# Altium integrated library Silicon Labs Clocks and Oscillators.IntLib: 678 symbols (part 42 of 45)
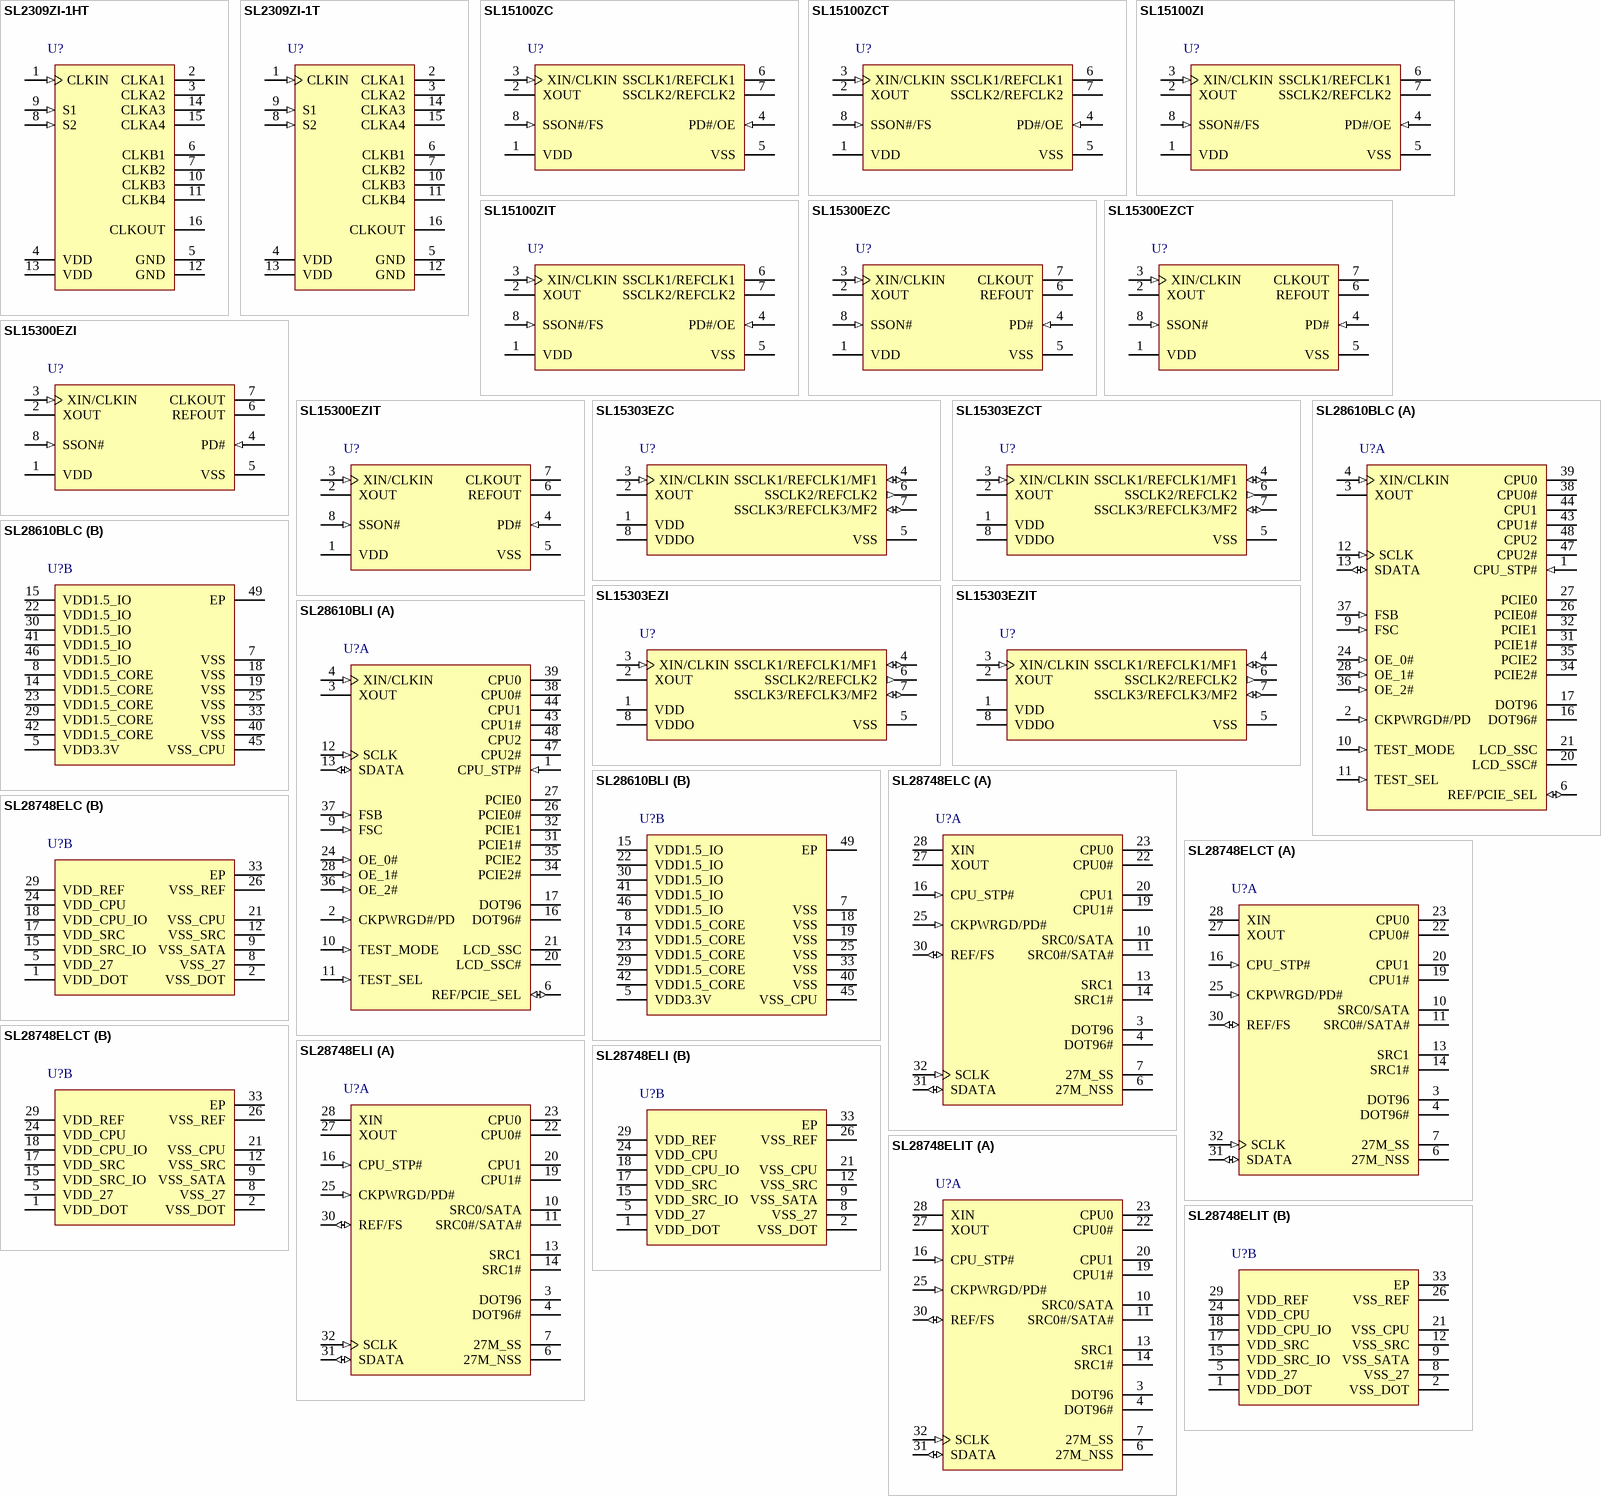
[diagram p85: symbols SL2309ZI-1HT to SL28748ELIT]

## SL15100ZI
designator U?
Programmable Spread Spectrum Clock Generator (SSCG), 2.5 / 3.3 V, 3 to 200 MHz Output, -40 to 85 degC, 8-pin SOP, Tube; Manufacturer: Silicon Labs; PartNumber: SL15100ZI; Output Format: LVCMOS; Output Frequency (MHz): 3 to 200; Phase Jitter (RMS): > 1 ps; Reference Inputs: 1; VDD: 2.5 V; 3.3 V; Sub-Family: Clock Generators; DatasheetVersion: Rev. 1.8; PackageReference: TSSOP-8; PackageDescription: 8-Pin Thin Shrink Small-Outline Package, Body 4.4 x 3 mm, Pitch 0.65 mm; Supplier 1: Digi-Key; Supplier Part Number 1: SL15100ZI-ND; Supplier 2: Mouser; Supplier Part Number 2: 634-SL15100ZI; Packing: Tube; Mounting Technology: Surface Mount; ComponentLink1Description: Manufacturer URL; ComponentLink1URL: http://www.silabs.com/; ComponentLink2Description: Datasheet; ComponentLink2URL: http://www.silabs.com/Support%20Documents/TechnicalDocs/SL15100.pdf; ComponentLink3Description: Package Specification; ComponentLink3URL: http://www.silabs.com/Support%20Documents/TechnicalDocs/SL2304NZ.pdf
footprint SLAB-TSSOP-8_N (SOP, 8-Leads, Body 4.5x3.1mm, Pitch 0.65mm, IPC Medium Density)
footprint SLAB-TSSOP-8_L (SOP, 8-Leads, Body 4.5x3.1mm, Pitch 0.65mm, IPC High Density)
footprint SLAB-TSSOP-8_M (SOP, 8-Leads, Body 4.5x3.1mm, Pitch 0.65mm, IPC Low Density)
pins: 1 VDD (power) "Positive power supply.", 2 XOUT "Crystal or ceramic resonator output pin. Leave this pin unconnected (floating) if external clock is used at Pin-3.", 3 XIN/CLKIN (in) "Crystal, ceramic resonator or external clock input pin.", 4 PD#/OE (in) "User Programmable PD# or OE control pin. Power Down (PD#-Active Low): If PD#=0(Low), the device is powered down and both SSCLK and REFOUT outputs are weakly pulled low to VSS. Output Enable (OE-Active High): If OE=1(High), (See Datasheet)", 5 VSS (power) "Power supply ground.", 6 SSCLK1/REFCLK1 (hiz) "This pin can be programmed as SSCLK1 or REFCLK1.", 7 SSCLK2/REFCLK2 (hiz) "This pin can be programmed as SSCLK2 or REFCLK2.", 8 SSON#/FS (in) "Programmable SSON# or Frequency Select (FS) Control pin. If SSCG# function is programmed: Spread-on=0(Low) or Spread-off=1(High). If FS function is programmed: The clock frequencies can be switched between two sets of (See Datasheet)"

## SL15100ZIT
designator U?
Programmable Spread Spectrum Clock Generator (SSCG), 2.5 / 3.3 V, 3 to 200 MHz Output, -40 to 85 degC, 8-pin SOP, Tape and Reel; Manufacturer: Silicon Labs; PartNumber: SL15100ZIT; Output Format: LVCMOS; Output Frequency (MHz): 3 to 200; Phase Jitter (RMS): > 1 ps; Reference Inputs: 1; VDD: 2.5 V; 3.3 V; Sub-Family: Clock Generators; DatasheetVersion: Rev. 1.8; PackageReference: TSSOP-8; PackageDescription: 8-Pin Thin Shrink Small-Outline Package, Body 4.4 x 3 mm, Pitch 0.65 mm; Supplier 1: Digi-Key; Supplier Part Number 1: SL15100ZIT-ND; Supplier 2: Mouser; Supplier Part Number 2: 634-SL15100ZIT; Packing: Tape and Reel; Mounting Technology: Surface Mount; ComponentLink1Description: Manufacturer URL; ComponentLink1URL: http://www.silabs.com/; ComponentLink2Description: Datasheet; ComponentLink2URL: http://www.silabs.com/Support%20Documents/TechnicalDocs/SL15100.pdf; ComponentLink3Description: Package Specification; ComponentLink3URL: http://www.silabs.com/Support%20Documents/TechnicalDocs/SL2304NZ.pdf
footprint SLAB-TSSOP-8_N (SOP, 8-Leads, Body 4.5x3.1mm, Pitch 0.65mm, IPC Medium Density)
footprint SLAB-TSSOP-8_L (SOP, 8-Leads, Body 4.5x3.1mm, Pitch 0.65mm, IPC High Density)
footprint SLAB-TSSOP-8_M (SOP, 8-Leads, Body 4.5x3.1mm, Pitch 0.65mm, IPC Low Density)
pins: 1 VDD (power) "Positive power supply.", 2 XOUT "Crystal or ceramic resonator output pin. Leave this pin unconnected (floating) if external clock is used at Pin-3.", 3 XIN/CLKIN (in) "Crystal, ceramic resonator or external clock input pin.", 4 PD#/OE (in) "User Programmable PD# or OE control pin. Power Down (PD#-Active Low): If PD#=0(Low), the device is powered down and both SSCLK and REFOUT outputs are weakly pulled low to VSS. Output Enable (OE-Active High): If OE=1(High), (See Datasheet)", 5 VSS (power) "Power supply ground.", 6 SSCLK1/REFCLK1 (hiz) "This pin can be programmed as SSCLK1 or REFCLK1.", 7 SSCLK2/REFCLK2 (hiz) "This pin can be programmed as SSCLK2 or REFCLK2.", 8 SSON#/FS (in) "Programmable SSON# or Frequency Select (FS) Control pin. If SSCG# function is programmed: Spread-on=0(Low) or Spread-off=1(High). If FS function is programmed: The clock frequencies can be switched between two sets of (See Datasheet)"

## SL15300EZC
designator U?
Programmable Spread Spectrum Clock Generator (SSCG), 1.8 / 2.5 / 3.3 V, 3 to 200 MHz Output, 0 to 70 degC, 8-pin SOP, Tube; Manufacturer: Silicon Labs; PartNumber: SL15300EZC; Output Format: LVCMOS; Output Frequency (MHz): 3 to 200; Phase Jitter (RMS): > 1 ps; Reference Inputs: 1; VDD: 1.8 V; 2.5 V; 3.3 V; Sub-Family: Clock Generators; DatasheetVersion: Rev. 2.0; PackageReference: TSSOP-8; PackageDescription: 8-Pin Thin Shrink Small-Outline Package, Body 4.4 x 3 mm, Pitch 0.65 mm; Packing: Tube; Mounting Technology: Surface Mount; ComponentLink1Description: Manufacturer URL; ComponentLink1URL: http://www.silabs.com/; ComponentLink2Description: Datasheet; ComponentLink2URL: http://www.silabs.com/Support%20Documents/TechnicalDocs/SL15300.pdf; ComponentLink3Description: Package Specification; ComponentLink3URL: http://www.silabs.com/Support%20Documents/TechnicalDocs/SL2304NZ.pdf
footprint SLAB-TSSOP-8_N (SOP, 8-Leads, Body 4.5x3.1mm, Pitch 0.65mm, IPC Medium Density)
footprint SLAB-TSSOP-8_L (SOP, 8-Leads, Body 4.5x3.1mm, Pitch 0.65mm, IPC High Density)
footprint SLAB-TSSOP-8_M (SOP, 8-Leads, Body 4.5x3.1mm, Pitch 0.65mm, IPC Low Density)
pins: 1 VDD (power) "Positive power supply.", 2 XOUT "Crystal or ceramic resonator output pin. Leave this pin unconnected (floating) if external clock is used at Pin-3.", 3 XIN/CLKIN (in) "Crystal, ceramic resonator or external clock input pin.", 4 PD# (in) "Power Down (PD#-Active Low): If PD#=0(Low) and Output Enable (OE-Active High). This pin is weakly pulled high to VDD (200Kohm-typ).", 5 VSS (power) "Power supply ground.", 6 REFOUT (hiz) "Reference clock output. Frequency at this pin is same as input crystal or clock.", 7 CLKOUT (hiz) "This pin can be programmed as SSCLK2 or REFCLK2.", 8 SSON# (in) "Spread Spectrum Clock Control pin. SSON#. If SSON#=0 spread is ON. If SSON#=1 spread is OFF. This pin is weakly pulled high to VDD (200Kohm-typ)."

## SL15300EZCT
designator U?
Programmable Spread Spectrum Clock Generator (SSCG), 1.8 / 2.5 / 3.3 V, 3 to 200 MHz Output, 0 to 70 degC, 8-pin SOP, Tape and Reel; Manufacturer: Silicon Labs; PartNumber: SL15300EZCT; Output Format: LVCMOS; Output Frequency (MHz): 3 to 200; Phase Jitter (RMS): > 1 ps; Reference Inputs: 1; VDD: 1.8 V; 2.5 V; 3.3 V; Sub-Family: Clock Generators; DatasheetVersion: Rev. 2.0; PackageReference: TSSOP-8; PackageDescription: 8-Pin Thin Shrink Small-Outline Package, Body 4.4 x 3 mm, Pitch 0.65 mm; Packing: Tape and Reel; Mounting Technology: Surface Mount; ComponentLink1Description: Manufacturer URL; ComponentLink1URL: http://www.silabs.com/; ComponentLink2Description: Datasheet; ComponentLink2URL: http://www.silabs.com/Support%20Documents/TechnicalDocs/SL15300.pdf; ComponentLink3Description: Package Specification; ComponentLink3URL: http://www.silabs.com/Support%20Documents/TechnicalDocs/SL2304NZ.pdf
footprint SLAB-TSSOP-8_N (SOP, 8-Leads, Body 4.5x3.1mm, Pitch 0.65mm, IPC Medium Density)
footprint SLAB-TSSOP-8_L (SOP, 8-Leads, Body 4.5x3.1mm, Pitch 0.65mm, IPC High Density)
footprint SLAB-TSSOP-8_M (SOP, 8-Leads, Body 4.5x3.1mm, Pitch 0.65mm, IPC Low Density)
pins: 1 VDD (power) "Positive power supply.", 2 XOUT "Crystal or ceramic resonator output pin. Leave this pin unconnected (floating) if external clock is used at Pin-3.", 3 XIN/CLKIN (in) "Crystal, ceramic resonator or external clock input pin.", 4 PD# (in) "Power Down (PD#-Active Low): If PD#=0(Low) and Output Enable (OE-Active High). This pin is weakly pulled high to VDD (200Kohm-typ).", 5 VSS (power) "Power supply ground.", 6 REFOUT (hiz) "Reference clock output. Frequency at this pin is same as input crystal or clock.", 7 CLKOUT (hiz) "This pin can be programmed as SSCLK2 or REFCLK2.", 8 SSON# (in) "Spread Spectrum Clock Control pin. SSON#. If SSON#=0 spread is ON. If SSON#=1 spread is OFF. This pin is weakly pulled high to VDD (200Kohm-typ)."

## SL15300EZI
designator U?
Programmable Spread Spectrum Clock Generator (SSCG), 1.8 / 2.5 / 3.3 V, 3 to 200 MHz Output, -40 to 85 degC, 8-pin SOP, Tube; Manufacturer: Silicon Labs; PartNumber: SL15300EZI; Output Format: LVCMOS; Output Frequency (MHz): 3 to 200; Phase Jitter (RMS): > 1 ps; Reference Inputs: 1; VDD: 1.8 V; 2.5 V; 3.3 V; Sub-Family: Clock Generators; DatasheetVersion: Rev. 2.0; PackageReference: TSSOP-8; PackageDescription: 8-Pin Thin Shrink Small-Outline Package, Body 4.4 x 3 mm, Pitch 0.65 mm; Packing: Tube; Mounting Technology: Surface Mount; ComponentLink1Description: Manufacturer URL; ComponentLink1URL: http://www.silabs.com/; ComponentLink2Description: Datasheet; ComponentLink2URL: http://www.silabs.com/Support%20Documents/TechnicalDocs/SL15300.pdf; ComponentLink3Description: Package Specification; ComponentLink3URL: http://www.silabs.com/Support%20Documents/TechnicalDocs/SL2304NZ.pdf
footprint SLAB-TSSOP-8_N (SOP, 8-Leads, Body 4.5x3.1mm, Pitch 0.65mm, IPC Medium Density)
footprint SLAB-TSSOP-8_L (SOP, 8-Leads, Body 4.5x3.1mm, Pitch 0.65mm, IPC High Density)
footprint SLAB-TSSOP-8_M (SOP, 8-Leads, Body 4.5x3.1mm, Pitch 0.65mm, IPC Low Density)
pins: 1 VDD (power) "Positive power supply.", 2 XOUT "Crystal or ceramic resonator output pin. Leave this pin unconnected (floating) if external clock is used at Pin-3.", 3 XIN/CLKIN (in) "Crystal, ceramic resonator or external clock input pin.", 4 PD# (in) "Power Down (PD#-Active Low): If PD#=0(Low) and Output Enable (OE-Active High). This pin is weakly pulled high to VDD (200Kohm-typ).", 5 VSS (power) "Power supply ground.", 6 REFOUT (hiz) "Reference clock output. Frequency at this pin is same as input crystal or clock.", 7 CLKOUT (hiz) "This pin can be programmed as SSCLK2 or REFCLK2.", 8 SSON# (in) "Spread Spectrum Clock Control pin. SSON#. If SSON#=0 spread is ON. If SSON#=1 spread is OFF. This pin is weakly pulled high to VDD (200Kohm-typ)."

## SL15300EZIT
designator U?
Programmable Spread Spectrum Clock Generator (SSCG), 1.8 / 2.5 / 3.3 V, 3 to 200 MHz Output, -40 to 85 degC, 8-pin SOP, Tape and Reel; Manufacturer: Silicon Labs; PartNumber: SL15300EZIT; Output Format: LVCMOS; Output Frequency (MHz): 3 to 200; Phase Jitter (RMS): > 1 ps; Reference Inputs: 1; VDD: 1.8 V; 2.5 V; 3.3 V; Sub-Family: Clock Generators; DatasheetVersion: Rev. 2.0; PackageReference: TSSOP-8; PackageDescription: 8-Pin Thin Shrink Small-Outline Package, Body 4.4 x 3 mm, Pitch 0.65 mm; Packing: Tape and Reel; Mounting Technology: Surface Mount; ComponentLink1Description: Manufacturer URL; ComponentLink1URL: http://www.silabs.com/; ComponentLink2Description: Datasheet; ComponentLink2URL: http://www.silabs.com/Support%20Documents/TechnicalDocs/SL15300.pdf; ComponentLink3Description: Package Specification; ComponentLink3URL: http://www.silabs.com/Support%20Documents/TechnicalDocs/SL2304NZ.pdf
footprint SLAB-TSSOP-8_N (SOP, 8-Leads, Body 4.5x3.1mm, Pitch 0.65mm, IPC Medium Density)
footprint SLAB-TSSOP-8_L (SOP, 8-Leads, Body 4.5x3.1mm, Pitch 0.65mm, IPC High Density)
footprint SLAB-TSSOP-8_M (SOP, 8-Leads, Body 4.5x3.1mm, Pitch 0.65mm, IPC Low Density)
pins: 1 VDD (power) "Positive power supply.", 2 XOUT "Crystal or ceramic resonator output pin. Leave this pin unconnected (floating) if external clock is used at Pin-3.", 3 XIN/CLKIN (in) "Crystal, ceramic resonator or external clock input pin.", 4 PD# (in) "Power Down (PD#-Active Low): If PD#=0(Low) and Output Enable (OE-Active High). This pin is weakly pulled high to VDD (200Kohm-typ).", 5 VSS (power) "Power supply ground.", 6 REFOUT (hiz) "Reference clock output. Frequency at this pin is same as input crystal or clock.", 7 CLKOUT (hiz) "This pin can be programmed as SSCLK2 or REFCLK2.", 8 SSON# (in) "Spread Spectrum Clock Control pin. SSON#. If SSON#=0 spread is ON. If SSON#=1 spread is OFF. This pin is weakly pulled high to VDD (200Kohm-typ)."

## SL15303EZC
designator U?
Programmable Spread Spectrum Clock Generator (SSCG), 1.8 / 2.5 / 3.3 V, 3 to 200 MHz Output, 0 to 70 degC, 8-pin SOP, Tube; Manufacturer: Silicon Labs; PartNumber: SL15303EZC; Output Format: LVCMOS; Output Frequency (MHz): 3 to 200; Phase Jitter (RMS): > 1 ps; Reference Inputs: 1; VDD: 1.8 V; 2.5 V; 3.3 V; Sub-Family: Clock Generators; DatasheetVersion: Rev. 2.0; PackageReference: TSSOP-8; PackageDescription: 8-Pin Thin Shrink Small-Outline Package, Body 4.4 x 3 mm, Pitch 0.65 mm; Supplier 1: Digi-Key; Supplier Part Number 1: SL15303EZC-ND; Supplier 2: Mouser; Supplier Part Number 2: 634-SL15303EZC; Packing: Tube; Mounting Technology: Surface Mount; ComponentLink1Description: Manufacturer URL; ComponentLink1URL: http://www.silabs.com/; ComponentLink2Description: Datasheet; ComponentLink2URL: http://www.silabs.com/Support%20Documents/TechnicalDocs/SL15303.pdf; ComponentLink3Description: Package Specification; ComponentLink3URL: http://www.silabs.com/Support%20Documents/TechnicalDocs/SL2305.pdf
footprint SLAB-TSSOP-8_A_N (SOP, 8-Leads, Body 4.5x3.1mm, Pitch 0.65mm, IPC Medium Density)
footprint SLAB-TSSOP-8_A_L (SOP, 8-Leads, Body 4.5x3.1mm, Pitch 0.65mm, IPC High Density)
footprint SLAB-TSSOP-8_A_M (SOP, 8-Leads, Body 4.5x3.1mm, Pitch 0.65mm, IPC Low Density)
pins: 1 VDD (power) "Positive power supply pin for Pins 4 and 6 I/O (clock driver, PD#, OE, SSON# or FS), core and input oscillator. This pin can be powered as 3.3 to 2.5V or 1.8V as long as VDDO=<VDD.", 2 XOUT "Crystal or ceramic resonator output pin. Leave this pin unconnected (floating) if external clock is used at Pin-3.", 3 XIN/CLKIN (in) "Crystal, ceramic resonator or external clock input pin.", 4 SSCLK1/REFCLK1/MF1 (io), 5 VSS (power) "Power supply ground for VDD and VSS.", 6 SSCLK2/REFCLK2 (out), 7 SSCLK3/REFCLK3/MF2 (io), 8 VDDO (power) "Power supply pin for Pin 7 clock driver. This pin can be powered as 3.3 to 2.5V or 1.8V as long as VDDO=<VDD."

## SL15303EZCT
designator U?
Programmable Spread Spectrum Clock Generator (SSCG), 1.8 / 2.5 / 3.3 V, 3 to 200 MHz Output, 0 to 70 degC, 8-pin SOP, Tape and Reel; Manufacturer: Silicon Labs; PartNumber: SL15303EZCT; Output Format: LVCMOS; Output Frequency (MHz): 3 to 200; Phase Jitter (RMS): > 1 ps; Reference Inputs: 1; VDD: 1.8 V; 2.5 V; 3.3 V; Sub-Family: Clock Generators; DatasheetVersion: Rev. 2.0; PackageReference: TSSOP-8; PackageDescription: 8-Pin Thin Shrink Small-Outline Package, Body 4.4 x 3 mm, Pitch 0.65 mm; Supplier 1: Digi-Key; Supplier Part Number 1: SL15303EZCT-ND; Supplier 2: Mouser; Supplier Part Number 2: 634-SL15303EZCT; Packing: Tape and Reel; Mounting Technology: Surface Mount; ComponentLink1Description: Manufacturer URL; ComponentLink1URL: http://www.silabs.com/; ComponentLink2Description: Datasheet; ComponentLink2URL: http://www.silabs.com/Support%20Documents/TechnicalDocs/SL15303.pdf; ComponentLink3Description: Package Specification; ComponentLink3URL: http://www.silabs.com/Support%20Documents/TechnicalDocs/SL2305.pdf
footprint SLAB-TSSOP-8_A_N (SOP, 8-Leads, Body 4.5x3.1mm, Pitch 0.65mm, IPC Medium Density)
footprint SLAB-TSSOP-8_A_L (SOP, 8-Leads, Body 4.5x3.1mm, Pitch 0.65mm, IPC High Density)
footprint SLAB-TSSOP-8_A_M (SOP, 8-Leads, Body 4.5x3.1mm, Pitch 0.65mm, IPC Low Density)
pins: 1 VDD (power) "Positive power supply pin for Pins 4 and 6 I/O (clock driver, PD#, OE, SSON# or FS), core and input oscillator. This pin can be powered as 3.3 to 2.5V or 1.8V as long as VDDO=<VDD.", 2 XOUT "Crystal or ceramic resonator output pin. Leave this pin unconnected (floating) if external clock is used at Pin-3.", 3 XIN/CLKIN (in) "Crystal, ceramic resonator or external clock input pin.", 4 SSCLK1/REFCLK1/MF1 (io), 5 VSS (power) "Power supply ground for VDD and VSS.", 6 SSCLK2/REFCLK2 (out), 7 SSCLK3/REFCLK3/MF2 (io), 8 VDDO (power) "Power supply pin for Pin 7 clock driver. This pin can be powered as 3.3 to 2.5V or 1.8V as long as VDDO=<VDD."

## SL15303EZI
designator U?
Programmable Spread Spectrum Clock Generator (SSCG), 1.8 / 2.5 / 3.3 V, 3 to 200 MHz Output, -40 to 85 degC, 8-pin SOP, Tube; Manufacturer: Silicon Labs; PartNumber: SL15303EZI; Output Format: LVCMOS; Output Frequency (MHz): 3 to 200; Phase Jitter (RMS): > 1 ps; Reference Inputs: 1; VDD: 1.8 V; 2.5 V; 3.3 V; Sub-Family: Clock Generators; DatasheetVersion: Rev. 2.0; PackageReference: TSSOP-8; PackageDescription: 8-Pin Thin Shrink Small-Outline Package, Body 4.4 x 3 mm, Pitch 0.65 mm; Supplier 1: Digi-Key; Supplier Part Number 1: SL15303EZI-ND; Supplier 2: Mouser; Supplier Part Number 2: 634-SL15303EZI; Packing: Tube; Mounting Technology: Surface Mount; ComponentLink1Description: Manufacturer URL; ComponentLink1URL: http://www.silabs.com/; ComponentLink2Description: Datasheet; ComponentLink2URL: http://www.silabs.com/Support%20Documents/TechnicalDocs/SL15303.pdf; ComponentLink3Description: Package Specification; ComponentLink3URL: http://www.silabs.com/Support%20Documents/TechnicalDocs/SL2305.pdf
footprint SLAB-TSSOP-8_A_N (SOP, 8-Leads, Body 4.5x3.1mm, Pitch 0.65mm, IPC Medium Density)
footprint SLAB-TSSOP-8_A_L (SOP, 8-Leads, Body 4.5x3.1mm, Pitch 0.65mm, IPC High Density)
footprint SLAB-TSSOP-8_A_M (SOP, 8-Leads, Body 4.5x3.1mm, Pitch 0.65mm, IPC Low Density)
pins: 1 VDD (power) "Positive power supply pin for Pins 4 and 6 I/O (clock driver, PD#, OE, SSON# or FS), core and input oscillator. This pin can be powered as 3.3 to 2.5V or 1.8V as long as VDDO=<VDD.", 2 XOUT "Crystal or ceramic resonator output pin. Leave this pin unconnected (floating) if external clock is used at Pin-3.", 3 XIN/CLKIN (in) "Crystal, ceramic resonator or external clock input pin.", 4 SSCLK1/REFCLK1/MF1 (io), 5 VSS (power) "Power supply ground for VDD and VSS.", 6 SSCLK2/REFCLK2 (out), 7 SSCLK3/REFCLK3/MF2 (io), 8 VDDO (power) "Power supply pin for Pin 7 clock driver. This pin can be powered as 3.3 to 2.5V or 1.8V as long as VDDO=<VDD."

## SL15303EZIT
designator U?
Programmable Spread Spectrum Clock Generator (SSCG), 1.8 / 2.5 / 3.3 V, 3 to 200 MHz Output, -40 to 85 degC, 8-pin SOP, Tape and Reel; Manufacturer: Silicon Labs; PartNumber: SL15303EZIT; Output Format: LVCMOS; Output Frequency (MHz): 3 to 200; Phase Jitter (RMS): > 1 ps; Reference Inputs: 1; VDD: 1.8 V; 2.5 V; 3.3 V; Sub-Family: Clock Generators; DatasheetVersion: Rev. 2.0; PackageReference: TSSOP-8; PackageDescription: 8-Pin Thin Shrink Small-Outline Package, Body 4.4 x 3 mm, Pitch 0.65 mm; Supplier 1: Digi-Key; Supplier Part Number 1: SL15303EZIT-ND; Supplier 2: Mouser; Supplier Part Number 2: 634-SL15303EZIT; Packing: Tape and Reel; Mounting Technology: Surface Mount; ComponentLink1Description: Manufacturer URL; ComponentLink1URL: http://www.silabs.com/; ComponentLink2Description: Datasheet; ComponentLink2URL: http://www.silabs.com/Support%20Documents/TechnicalDocs/SL15303.pdf; ComponentLink3Description: Package Specification; ComponentLink3URL: http://www.silabs.com/Support%20Documents/TechnicalDocs/SL2305.pdf
footprint SLAB-TSSOP-8_A_N (SOP, 8-Leads, Body 4.5x3.1mm, Pitch 0.65mm, IPC Medium Density)
footprint SLAB-TSSOP-8_A_L (SOP, 8-Leads, Body 4.5x3.1mm, Pitch 0.65mm, IPC High Density)
footprint SLAB-TSSOP-8_A_M (SOP, 8-Leads, Body 4.5x3.1mm, Pitch 0.65mm, IPC Low Density)
pins: 1 VDD (power) "Positive power supply pin for Pins 4 and 6 I/O (clock driver, PD#, OE, SSON# or FS), core and input oscillator. This pin can be powered as 3.3 to 2.5V or 1.8V as long as VDDO=<VDD.", 2 XOUT "Crystal or ceramic resonator output pin. Leave this pin unconnected (floating) if external clock is used at Pin-3.", 3 XIN/CLKIN (in) "Crystal, ceramic resonator or external clock input pin.", 4 SSCLK1/REFCLK1/MF1 (io), 5 VSS (power) "Power supply ground for VDD and VSS.", 6 SSCLK2/REFCLK2 (out), 7 SSCLK3/REFCLK3/MF2 (io), 8 VDDO (power) "Power supply pin for Pin 7 clock driver. This pin can be powered as 3.3 to 2.5V or 1.8V as long as VDDO=<VDD."

## SL28610BLC
designator U?
Low Power Clock Generator for Intel(R) Ultra Mobile Platform, 200 MHz Max Output, 0 to 85 degC, 48-pin QFN; Manufacturer: Silicon Labs; PartNumber: SL28610BLC; Output Format: LVCMOS; HCSL; Output Frequency (MHz): 14.318; 96; 100; 100 to 200; Reference Inputs: 1; VDD: 1.5V; Sub-Family: Clock Generators; DatasheetVersion: Rev. AA; PackageReference: QFN-48; PackageDescription: 48-Pin Quad-Flat No-Leads Package, Body 6 x 6 mm, Pitch 0.4 mm; Supplier 1: Digi-Key; Supplier Part Number 1: SL28610BLC-ND; Supplier 2: Mouser; Supplier Part Number 2: 634-SL28610BLC; Mounting Technology: Surface Mount; ComponentLink1Description: Manufacturer URL; ComponentLink1URL: http://www.silabs.com/; ComponentLink2Description: Datasheet; ComponentLink2URL: http://www.silabs.com/Support%20Documents/TechnicalDocs/SL28610.pdf; ComponentLink3Description: Package Specification; ComponentLink3URL: http://www.silabs.com/Support%20Documents/TechnicalDocs/SL28610.pdf
footprint SLAB-QFN-48-4400x4400TP_N (QFN, 48-Leads, Body 6.1x6.1mm, Pitch 0.4mm, Thermal Pad 4.4x4.4mm, IPC Medium Density)
footprint SLAB-QFN-48-4400x4400TP_L (QFN, 48-Leads, Body 6.1x6.1mm, Pitch 0.4mm, Thermal Pad 4.4x4.4mm, IPC High Density)
footprint SLAB-QFN-48-4400x4400TP_M (QFN, 48-Leads, Body 6.1x6.1mm, Pitch 0.4mm, Thermal Pad 4.4x4.4mm, IPC Low Density)
part A pins: 1 CPU_STP# (in) "3.3V input for CPU_STP# (active low) functionality", 2 CKPWRGD#/PD (in) "3.3V LVTTL input (active low)", 3 XOUT "3.3V, 14.31818MHz crystal output (When used a clock input, float XOUT)", 4 XIN/CLKIN (in) "3.3V, 14.31818MHz crystal input, 3.3V Clock Input.", 6 REF/PCIE_SEL (io) "3.3V, 14.31818MHz output / 1.5V input active high signal latched on CKPWRGD# signal to select PCIe from PLL3 (share with LCD PLL; 100K-ohm internal pull-down)", 9 FSC (in) "1.05V Frequency Select C", 10 TEST_MODE (in) "3.3V-tolerant input to selects Ref/N or Tri-state when in test mode. 0 = Tri-state, 1 = Ref/N", 11 TEST_SEL (in) "3.3V-tolerant input to selects TEST_SEL 0 = Normal, 1 = Test Entry", 12 SCLK (in) "3.3V SMBus Clock Line", 13 SDATA (io) "3.3V SMBus Data Line", 16 DOT96# (hiz) "Fixed complimentary 96MHz clock output", 17 DOT96 (hiz) "Fixed true 96MHz clock output", 20 LCD_SSC# (hiz) "Complementary 100MHz Differential clock", 21 LCD_SSC (hiz) "True 100MHz Differential clock", 24 OE_0# (in) "Output enable for PCIe0, (10K-ohm internal pull-up) 0 =enable, 1=disable", 26 PCIE0# (hiz) "Complementary 100MHz Differential clock", 27 PCIE0 (hiz) "True 100MHz Differential clock", 28 OE_1# (in) "Output enable for PCIe1, (10K-ohm internal pull-up) 0 =enable, 1=disable", 31 PCIE1# (hiz) "Complementary 100MHz Differential clock", 32 PCIE1 (hiz) "True 100MHz Differential clock", 34 PCIE2# (hiz) "Complementary 100MHz Differential clock", 35 PCIE2 (hiz) "True 100MHz Differential clock", 36 OE_2# (in) "Output enable for PCIe2, (10K-ohm internal pull-up) 0 =enable, 1=disable", 37 FSB (in) "1.05V Frequency Select B", 38 CPU0# (hiz) "Complementary Host Differential clock", 39 CPU0 (hiz) "True Host Differential clock", 43 CPU1# (hiz) "Complementary Host Differential clock", 44 CPU1 (hiz) "True Host Differential clock", 47 CPU2# (hiz) "Complementary Host Differential clock", 48 CPU2 (hiz) "True Host Differential clock"
part B pins: 5 VDD3.3V (power) "3.3V power supply for single-ended clock", 7 VSS (power) "Ground", 8 VDD1.5_CORE (power) "1.5V power supply for core", 14 VDD1.5_CORE (power) "1.5V power supply for core", 15 VDD1.5_IO (power) "1.5V power supply for differential outputs", 18 VSS (power) "Ground", 19 VSS (power) "Ground", 22 VDD1.5_IO (power) "1.5V power supply for differential outputs", 23 VDD1.5_CORE (power) "1.5V power supply for core", 25 VSS (power) "Ground", 29 VDD1.5_CORE (power) "1.5V Power Supply for core", 30 VDD1.5_IO (power) "1.5V Power Supply for differential output", 33 VSS (power) "Ground", 40 VSS (power) "Ground", 41 VDD1.5_IO (power) "1.5V Power Supply for differential output", 42 VDD1.5_CORE (power) "1.5V Power Supply for core", 45 VSS_CPU (power) "Ground", 46 VDD1.5_IO (power) "1.5V Power Supply for differential output", 49 EP

## SL28610BLI
designator U?
Low Power Clock Generator for Intel(R) Ultra Mobile Platform, 200 MHz Max Output, -40 to 85 degC, 48-pin QFN; Manufacturer: Silicon Labs; PartNumber: SL28610BLI; Output Format: LVCMOS; HCSL; Output Frequency (MHz): 14.318; 96; 100; 100 to 200; Reference Inputs: 1; VDD: 1.5V; Sub-Family: Clock Generators; DatasheetVersion: Rev. AA; PackageReference: QFN-48; PackageDescription: 48-Pin Quad-Flat No-Leads Package, Body 6 x 6 mm, Pitch 0.4 mm; Supplier 1: Digi-Key; Supplier Part Number 1: SL28610BLI-ND; Supplier 2: Mouser; Supplier Part Number 2: 634-SL28610BLI; Mounting Technology: Surface Mount; ComponentLink1Description: Manufacturer URL; ComponentLink1URL: http://www.silabs.com/; ComponentLink2Description: Datasheet; ComponentLink2URL: http://www.silabs.com/Support%20Documents/TechnicalDocs/SL28610.pdf; ComponentLink3Description: Package Specification; ComponentLink3URL: http://www.silabs.com/Support%20Documents/TechnicalDocs/SL28610.pdf
footprint SLAB-QFN-48-4400x4400TP_N (QFN, 48-Leads, Body 6.1x6.1mm, Pitch 0.4mm, Thermal Pad 4.4x4.4mm, IPC Medium Density)
footprint SLAB-QFN-48-4400x4400TP_L (QFN, 48-Leads, Body 6.1x6.1mm, Pitch 0.4mm, Thermal Pad 4.4x4.4mm, IPC High Density)
footprint SLAB-QFN-48-4400x4400TP_M (QFN, 48-Leads, Body 6.1x6.1mm, Pitch 0.4mm, Thermal Pad 4.4x4.4mm, IPC Low Density)
part A pins: 1 CPU_STP# (in) "3.3V input for CPU_STP# (active low) functionality", 2 CKPWRGD#/PD (in) "3.3V LVTTL input (active low)", 3 XOUT "3.3V, 14.31818MHz crystal output (When used a clock input, float XOUT)", 4 XIN/CLKIN (in) "3.3V, 14.31818MHz crystal input, 3.3V Clock Input.", 6 REF/PCIE_SEL (io) "3.3V, 14.31818MHz output / 1.5V input active high signal latched on CKPWRGD# signal to select PCIe from PLL3 (share with LCD PLL; 100K-ohm internal pull-down)", 9 FSC (in) "1.05V Frequency Select C", 10 TEST_MODE (in) "3.3V-tolerant input to selects Ref/N or Tri-state when in test mode. 0 = Tri-state, 1 = Ref/N", 11 TEST_SEL (in) "3.3V-tolerant input to selects TEST_SEL 0 = Normal, 1 = Test Entry", 12 SCLK (in) "3.3V SMBus Clock Line", 13 SDATA (io) "3.3V SMBus Data Line", 16 DOT96# (hiz) "Fixed complimentary 96MHz clock output", 17 DOT96 (hiz) "Fixed true 96MHz clock output", 20 LCD_SSC# (hiz) "Complementary 100MHz Differential clock", 21 LCD_SSC (hiz) "True 100MHz Differential clock", 24 OE_0# (in) "Output enable for PCIe0, (10K-ohm internal pull-up) 0 =enable, 1=disable", 26 PCIE0# (hiz) "Complementary 100MHz Differential clock", 27 PCIE0 (hiz) "True 100MHz Differential clock", 28 OE_1# (in) "Output enable for PCIe1, (10K-ohm internal pull-up) 0 =enable, 1=disable", 31 PCIE1# (hiz) "Complementary 100MHz Differential clock", 32 PCIE1 (hiz) "True 100MHz Differential clock", 34 PCIE2# (hiz) "Complementary 100MHz Differential clock", 35 PCIE2 (hiz) "True 100MHz Differential clock", 36 OE_2# (in) "Output enable for PCIe2, (10K-ohm internal pull-up) 0 =enable, 1=disable", 37 FSB (in) "1.05V Frequency Select B", 38 CPU0# (hiz) "Complementary Host Differential clock", 39 CPU0 (hiz) "True Host Differential clock", 43 CPU1# (hiz) "Complementary Host Differential clock", 44 CPU1 (hiz) "True Host Differential clock", 47 CPU2# (hiz) "Complementary Host Differential clock", 48 CPU2 (hiz) "True Host Differential clock"
part B pins: 5 VDD3.3V (power) "3.3V power supply for single-ended clock", 7 VSS (power) "Ground", 8 VDD1.5_CORE (power) "1.5V power supply for core", 14 VDD1.5_CORE (power) "1.5V power supply for core", 15 VDD1.5_IO (power) "1.5V power supply for differential outputs", 18 VSS (power) "Ground", 19 VSS (power) "Ground", 22 VDD1.5_IO (power) "1.5V power supply for differential outputs", 23 VDD1.5_CORE (power) "1.5V power supply for core", 25 VSS (power) "Ground", 29 VDD1.5_CORE (power) "1.5V Power Supply for core", 30 VDD1.5_IO (power) "1.5V Power Supply for differential output", 33 VSS (power) "Ground", 40 VSS (power) "Ground", 41 VDD1.5_IO (power) "1.5V Power Supply for differential output", 42 VDD1.5_CORE (power) "1.5V Power Supply for core", 45 VSS_CPU (power) "Ground", 46 VDD1.5_IO (power) "1.5V Power Supply for differential output", 49 EP

## SL28748ELC
designator U?
EProClock(R) Generator for Intel Calpella Chipset, 3.3 V, 133 MHz Max Output, 0 to 85 degC, 32-pin QFN; Manufacturer: Silicon Labs; PartNumber: SL28748ELC; Output Format: LVCMOS; HCSL; Output Frequency (MHz): 14.318; 27; 96; 100; 133; Reference Inputs: 1; VDD: 3.3 V; Sub-Family: Clock Generators; DatasheetVersion: Rev. AA; PackageReference: QFN-32; PackageDescription: 32-Pin Quad-Flat No-Leads Package, Body 5 x 5 mm, Pitch 0.5 mm; Supplier 1: Digi-Key; Supplier Part Number 1: SL28748ELC-ND; Supplier 2: Mouser; Supplier Part Number 2: 634-SL28748ELC; Mounting Technology: Surface Mount; ComponentLink1Description: Manufacturer URL; ComponentLink1URL: http://www.silabs.com/; ComponentLink2Description: Datasheet; ComponentLink2URL: http://www.silabs.com/Support%20Documents/TechnicalDocs/SL28748.pdf; ComponentLink3Description: Package Specification; ComponentLink3URL: http://www.silabs.com/Support%20Documents/TechnicalDocs/SL28PCIe10.pdf
footprint SLAB-QFN-32-3300x3300TP_B_N (QFN, 32-Leads, Body 5.1x5.1mm, Pitch 0.5mm, Thermal Pad 3.3x3.3mm, IPC Medium Density)
footprint SLAB-QFN-32-3300x3300TP_B_L (QFN, 32-Leads, Body 5.1x5.1mm, Pitch 0.5mm, Thermal Pad 3.3x3.3mm, IPC High Density)
footprint SLAB-QFN-32-3300x3300TP_B_M (QFN, 32-Leads, Body 5.1x5.1mm, Pitch 0.5mm, Thermal Pad 3.3x3.3mm, IPC Low Density)
part A pins: 3 DOT96 (hiz) "Fixed true 96MHz clock output", 4 DOT96# (hiz) "Fixed complement 96MHz clock output", 6 27M_NSS (hiz) "Non-spread 27MHz video clock output", 7 27M_SS (hiz) "Spread 27MHz video clock output", 10 SRC0/SATA (hiz) "100MHz True differential serial reference clock", 11 SRC0#/SATA# (hiz) "100MHz Complement differential serial reference clock", 13 SRC1 (hiz) "100MHz True differential serial reference clock", 14 SRC1# (hiz) "100MHz Complement differential serial reference clock", 16 CPU_STP# (in) "3.3V tolerance input to stop the CPU clock", 19 CPU1# (hiz) "Complement differential CPU clock output", 20 CPU1 (hiz) "True differential CPU clock output", 22 CPU0# (hiz) "Complement differential CPU clock output", 23 CPU0 (hiz) "True differential CPU clock output", 25 CKPWRGD/PD# (in) "3.3V LVTTL input. This pin is a level sensitive strobe used to latch the FS. After CKPWRGD (active HIGH) assertion, this pin becomes a real-time input for asserting power down (active LOW)", 27 XOUT "14.318MHz Crystal output", 28 XIN "14.318MHz Crystal input", 30 REF/FS (io) "3.3V tolerant input for Graphic clock selection/fixed 14.318MHz clock output. (Internal 100K-ohm pull-down resistor on FS pin) Refer to DC Electrical Specifications table for Vil_FS and Vih_FS specifications", 31 SDATA (io) "SMBus compatible SDATA", 32 SCLK (in) "SMBus compatible SCLOCK"
part B pins: 1 VDD_DOT (power) "3.3V Power supply for outputs and PLL", 2 VSS_DOT (power) "Ground for outputs", 5 VDD_27 (power) "3.3V Power supply for 27MHz PLL", 8 VSS_27 (power) "Ground for 27MHz PLL", 9 VSS_SATA (power) "Ground for outputs", 12 VSS_SRC (power) "Ground for PLL", 15 VDD_SRC_IO (power) "Scalable 3.3V to 1.05V power supply for output buffer", 17 VDD_SRC (power) "3.3V Power supply for PLL", 18 VDD_CPU_IO (power) "Scalable 3.3V to 1.05V power supply for output buffer", 21 VSS_CPU (power) "Ground for PLL", 24 VDD_CPU (power) "3.3V Power supply for CPU PLL", 26 VSS_REF (power) "Ground for outputs", 29 VDD_REF (power) "3.3V Power supply for outputs and also maintains SMBUS registers during power-down", 33 EP

## SL28748ELCT
designator U?
EProClock(R) Generator for Intel Calpella Chipset, 3.3 V, 133 MHz Max Output, 0 to 85 degC, 32-pin QFN, Tape and Reel; Manufacturer: Silicon Labs; PartNumber: SL28748ELCT; Output Format: LVCMOS; HCSL; Output Frequency (MHz): 14.318; 27; 96; 100; 133; Phase Jitter (RMS): > 1 ps; Reference Inputs: 1; VDD: 3.3 V; Sub-Family: Clock Generators; DatasheetVersion: Rev. AA; PackageReference: QFN-32; PackageDescription: 32-Pin Quad-Flat No-Leads Package, Body 5 x 5 mm, Pitch 0.5 mm; Supplier 1: Digi-Key; Supplier Part Number 1: SL28748ELCT-ND; Supplier 2: Mouser; Supplier Part Number 2: 634-SL28748ELCT; Packing: Tape and Reel; Mounting Technology: Surface Mount; ComponentLink1Description: Manufacturer URL; ComponentLink1URL: http://www.silabs.com/; ComponentLink2Description: Datasheet; ComponentLink2URL: http://www.silabs.com/Support%20Documents/TechnicalDocs/SL28748.pdf; ComponentLink3Description: Package Specification; ComponentLink3URL: http://www.silabs.com/Support%20Documents/TechnicalDocs/SL28PCIe10.pdf
footprint SLAB-QFN-32-3300x3300TP_B_N (QFN, 32-Leads, Body 5.1x5.1mm, Pitch 0.5mm, Thermal Pad 3.3x3.3mm, IPC Medium Density)
footprint SLAB-QFN-32-3300x3300TP_B_L (QFN, 32-Leads, Body 5.1x5.1mm, Pitch 0.5mm, Thermal Pad 3.3x3.3mm, IPC High Density)
footprint SLAB-QFN-32-3300x3300TP_B_M (QFN, 32-Leads, Body 5.1x5.1mm, Pitch 0.5mm, Thermal Pad 3.3x3.3mm, IPC Low Density)
part A pins: 3 DOT96 (hiz) "Fixed true 96MHz clock output", 4 DOT96# (hiz) "Fixed complement 96MHz clock output", 6 27M_NSS (hiz) "Non-spread 27MHz video clock output", 7 27M_SS (hiz) "Spread 27MHz video clock output", 10 SRC0/SATA (hiz) "100MHz True differential serial reference clock", 11 SRC0#/SATA# (hiz) "100MHz Complement differential serial reference clock", 13 SRC1 (hiz) "100MHz True differential serial reference clock", 14 SRC1# (hiz) "100MHz Complement differential serial reference clock", 16 CPU_STP# (in) "3.3V tolerance input to stop the CPU clock", 19 CPU1# (hiz) "Complement differential CPU clock output", 20 CPU1 (hiz) "True differential CPU clock output", 22 CPU0# (hiz) "Complement differential CPU clock output", 23 CPU0 (hiz) "True differential CPU clock output", 25 CKPWRGD/PD# (in) "3.3V LVTTL input. This pin is a level sensitive strobe used to latch the FS. After CKPWRGD (active HIGH) assertion, this pin becomes a real-time input for asserting power down (active LOW)", 27 XOUT "14.318MHz Crystal output", 28 XIN "14.318MHz Crystal input", 30 REF/FS (io) "3.3V tolerant input for Graphic clock selection/fixed 14.318MHz clock output. (Internal 100K-ohm pull-down resistor on FS pin) Refer to DC Electrical Specifications table for Vil_FS and Vih_FS specifications", 31 SDATA (io) "SMBus compatible SDATA", 32 SCLK (in) "SMBus compatible SCLOCK"
part B pins: 1 VDD_DOT (power) "3.3V Power supply for outputs and PLL", 2 VSS_DOT (power) "Ground for outputs", 5 VDD_27 (power) "3.3V Power supply for 27MHz PLL", 8 VSS_27 (power) "Ground for 27MHz PLL", 9 VSS_SATA (power) "Ground for outputs", 12 VSS_SRC (power) "Ground for PLL", 15 VDD_SRC_IO (power) "Scalable 3.3V to 1.05V power supply for output buffer", 17 VDD_SRC (power) "3.3V Power supply for PLL", 18 VDD_CPU_IO (power) "Scalable 3.3V to 1.05V power supply for output buffer", 21 VSS_CPU (power) "Ground for PLL", 24 VDD_CPU (power) "3.3V Power supply for CPU PLL", 26 VSS_REF (power) "Ground for outputs", 29 VDD_REF (power) "3.3V Power supply for outputs and also maintains SMBUS registers during power-down", 33 EP

## SL28748ELI
designator U?
EProClock(R) Generator for Intel Calpella Chipset, 3.3 V, 133 MHz Max Output, -40 to 85 degC, 32-pin QFN; Manufacturer: Silicon Labs; PartNumber: SL28748ELI; Output Format: LVCMOS; HCSL; Output Frequency (MHz): 14.318; 27; 96; 100; 133; Reference Inputs: 1; VDD: 3.3 V; Sub-Family: Clock Generators; DatasheetVersion: Rev. AA; PackageReference: QFN-32; PackageDescription: 32-Pin Quad-Flat No-Leads Package, Body 5 x 5 mm, Pitch 0.5 mm; Supplier 1: Digi-Key; Supplier Part Number 1: SL28748ELI-ND; Supplier 2: Mouser; Supplier Part Number 2: 634-SL28748ELI; Mounting Technology: Surface Mount; ComponentLink1Description: Manufacturer URL; ComponentLink1URL: http://www.silabs.com/; ComponentLink2Description: Datasheet; ComponentLink2URL: http://www.silabs.com/Support%20Documents/TechnicalDocs/SL28748.pdf; ComponentLink3Description: Package Specification; ComponentLink3URL: http://www.silabs.com/Support%20Documents/TechnicalDocs/SL28PCIe10.pdf
footprint SLAB-QFN-32-3300x3300TP_B_N (QFN, 32-Leads, Body 5.1x5.1mm, Pitch 0.5mm, Thermal Pad 3.3x3.3mm, IPC Medium Density)
footprint SLAB-QFN-32-3300x3300TP_B_L (QFN, 32-Leads, Body 5.1x5.1mm, Pitch 0.5mm, Thermal Pad 3.3x3.3mm, IPC High Density)
footprint SLAB-QFN-32-3300x3300TP_B_M (QFN, 32-Leads, Body 5.1x5.1mm, Pitch 0.5mm, Thermal Pad 3.3x3.3mm, IPC Low Density)
part A pins: 3 DOT96 (hiz) "Fixed true 96MHz clock output", 4 DOT96# (hiz) "Fixed complement 96MHz clock output", 6 27M_NSS (hiz) "Non-spread 27MHz video clock output", 7 27M_SS (hiz) "Spread 27MHz video clock output", 10 SRC0/SATA (hiz) "100MHz True differential serial reference clock", 11 SRC0#/SATA# (hiz) "100MHz Complement differential serial reference clock", 13 SRC1 (hiz) "100MHz True differential serial reference clock", 14 SRC1# (hiz) "100MHz Complement differential serial reference clock", 16 CPU_STP# (in) "3.3V tolerance input to stop the CPU clock", 19 CPU1# (hiz) "Complement differential CPU clock output", 20 CPU1 (hiz) "True differential CPU clock output", 22 CPU0# (hiz) "Complement differential CPU clock output", 23 CPU0 (hiz) "True differential CPU clock output", 25 CKPWRGD/PD# (in) "3.3V LVTTL input. This pin is a level sensitive strobe used to latch the FS. After CKPWRGD (active HIGH) assertion, this pin becomes a real-time input for asserting power down (active LOW)", 27 XOUT "14.318MHz Crystal output", 28 XIN "14.318MHz Crystal input", 30 REF/FS (io) "3.3V tolerant input for Graphic clock selection/fixed 14.318MHz clock output. (Internal 100K-ohm pull-down resistor on FS pin) Refer to DC Electrical Specifications table for Vil_FS and Vih_FS specifications", 31 SDATA (io) "SMBus compatible SDATA", 32 SCLK (in) "SMBus compatible SCLOCK"
part B pins: 1 VDD_DOT (power) "3.3V Power supply for outputs and PLL", 2 VSS_DOT (power) "Ground for outputs", 5 VDD_27 (power) "3.3V Power supply for 27MHz PLL", 8 VSS_27 (power) "Ground for 27MHz PLL", 9 VSS_SATA (power) "Ground for outputs", 12 VSS_SRC (power) "Ground for PLL", 15 VDD_SRC_IO (power) "Scalable 3.3V to 1.05V power supply for output buffer", 17 VDD_SRC (power) "3.3V Power supply for PLL", 18 VDD_CPU_IO (power) "Scalable 3.3V to 1.05V power supply for output buffer", 21 VSS_CPU (power) "Ground for PLL", 24 VDD_CPU (power) "3.3V Power supply for CPU PLL", 26 VSS_REF (power) "Ground for outputs", 29 VDD_REF (power) "3.3V Power supply for outputs and also maintains SMBUS registers during power-down", 33 EP

## SL28748ELIT
designator U?
EProClock(R) Generator for Intel Calpella Chipset, 3.3 V, 133 MHz Max Output, -40 to 85 degC, 32-pin QFN, Tape and Reel; Manufacturer: Silicon Labs; PartNumber: SL28748ELIT; Output Format: LVCMOS; HCSL; Output Frequency (MHz): 14.318; 27; 96; 100; 133; Phase Jitter (RMS): > 1 ps; Reference Inputs: 1; VDD: 3.3 V; Sub-Family: Clock Generators; DatasheetVersion: Rev. AA; PackageReference: QFN-32; PackageDescription: 32-Pin Quad-Flat No-Leads Package, Body 5 x 5 mm, Pitch 0.5 mm; Supplier 1: Digi-Key; Supplier Part Number 1: SL28748ELIT-ND; Supplier 2: Mouser; Supplier Part Number 2: 634-SL28748ELIT; Packing: Tape and Reel; Mounting Technology: Surface Mount; ComponentLink1Description: Manufacturer URL; ComponentLink1URL: http://www.silabs.com/; ComponentLink2Description: Datasheet; ComponentLink2URL: http://www.silabs.com/Support%20Documents/TechnicalDocs/SL28748.pdf; ComponentLink3Description: Package Specification; ComponentLink3URL: http://www.silabs.com/Support%20Documents/TechnicalDocs/SL28PCIe10.pdf
footprint SLAB-QFN-32-3300x3300TP_B_N (QFN, 32-Leads, Body 5.1x5.1mm, Pitch 0.5mm, Thermal Pad 3.3x3.3mm, IPC Medium Density)
footprint SLAB-QFN-32-3300x3300TP_B_L (QFN, 32-Leads, Body 5.1x5.1mm, Pitch 0.5mm, Thermal Pad 3.3x3.3mm, IPC High Density)
footprint SLAB-QFN-32-3300x3300TP_B_M (QFN, 32-Leads, Body 5.1x5.1mm, Pitch 0.5mm, Thermal Pad 3.3x3.3mm, IPC Low Density)
part A pins: 3 DOT96 (hiz) "Fixed true 96MHz clock output", 4 DOT96# (hiz) "Fixed complement 96MHz clock output", 6 27M_NSS (hiz) "Non-spread 27MHz video clock output", 7 27M_SS (hiz) "Spread 27MHz video clock output", 10 SRC0/SATA (hiz) "100MHz True differential serial reference clock", 11 SRC0#/SATA# (hiz) "100MHz Complement differential serial reference clock", 13 SRC1 (hiz) "100MHz True differential serial reference clock", 14 SRC1# (hiz) "100MHz Complement differential serial reference clock", 16 CPU_STP# (in) "3.3V tolerance input to stop the CPU clock", 19 CPU1# (hiz) "Complement differential CPU clock output", 20 CPU1 (hiz) "True differential CPU clock output", 22 CPU0# (hiz) "Complement differential CPU clock output", 23 CPU0 (hiz) "True differential CPU clock output", 25 CKPWRGD/PD# (in) "3.3V LVTTL input. This pin is a level sensitive strobe used to latch the FS. After CKPWRGD (active HIGH) assertion, this pin becomes a real-time input for asserting power down (active LOW)", 27 XOUT "14.318MHz Crystal output", 28 XIN "14.318MHz Crystal input", 30 REF/FS (io) "3.3V tolerant input for Graphic clock selection/fixed 14.318MHz clock output. (Internal 100K-ohm pull-down resistor on FS pin) Refer to DC Electrical Specifications table for Vil_FS and Vih_FS specifications", 31 SDATA (io) "SMBus compatible SDATA", 32 SCLK (in) "SMBus compatible SCLOCK"
part B pins: 1 VDD_DOT (power) "3.3V Power supply for outputs and PLL", 2 VSS_DOT (power) "Ground for outputs", 5 VDD_27 (power) "3.3V Power supply for 27MHz PLL", 8 VSS_27 (power) "Ground for 27MHz PLL", 9 VSS_SATA (power) "Ground for outputs", 12 VSS_SRC (power) "Ground for PLL", 15 VDD_SRC_IO (power) "Scalable 3.3V to 1.05V power supply for output buffer", 17 VDD_SRC (power) "3.3V Power supply for PLL", 18 VDD_CPU_IO (power) "Scalable 3.3V to 1.05V power supply for output buffer", 21 VSS_CPU (power) "Ground for PLL", 24 VDD_CPU (power) "3.3V Power supply for CPU PLL", 26 VSS_REF (power) "Ground for outputs", 29 VDD_REF (power) "3.3V Power supply for outputs and also maintains SMBUS registers during power-down", 33 EP

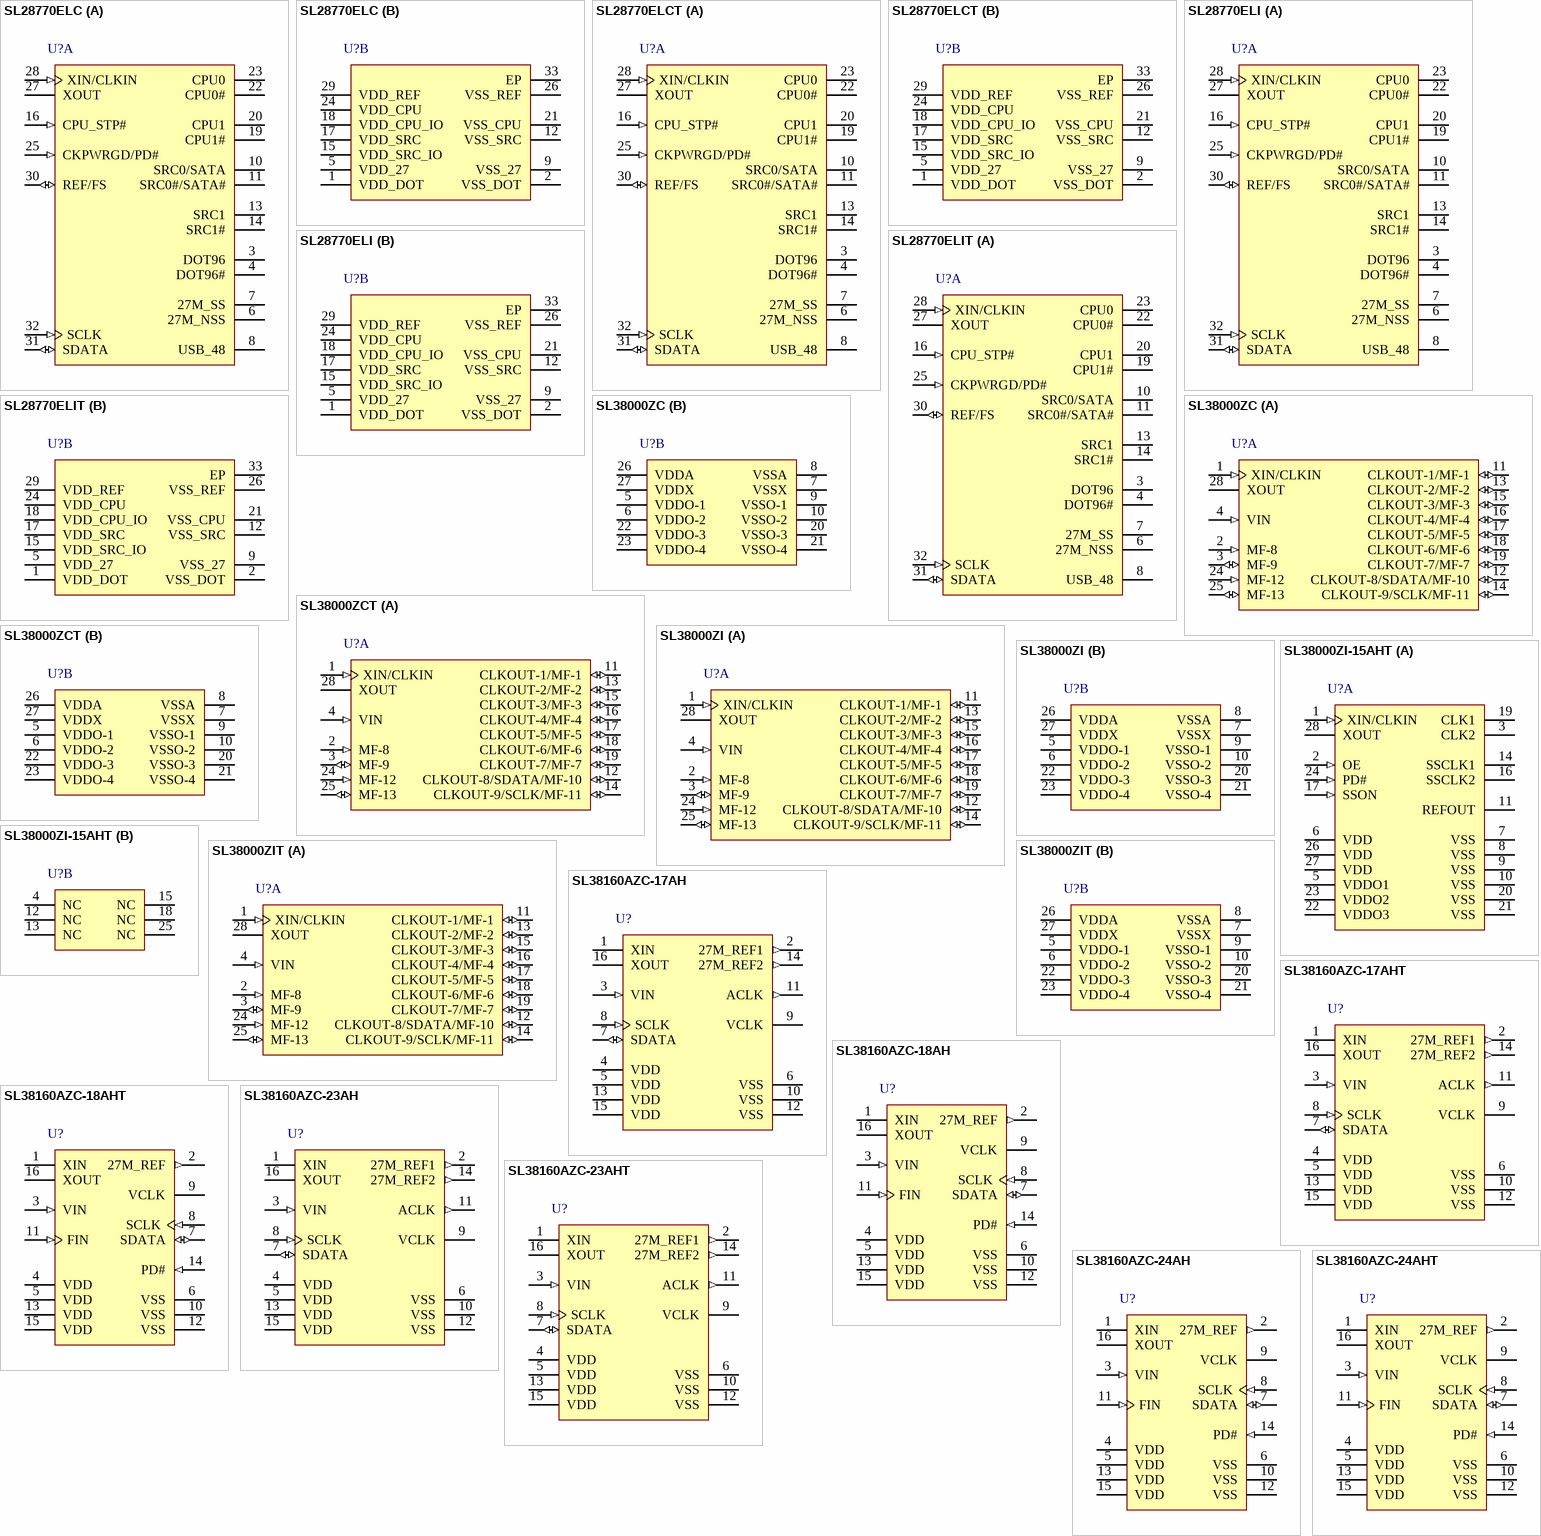
[diagram p41: symbols SL28770ELC to SL38160AZC-24AHT]

## SL28770ELC
designator U?
EProClock(R) Generator for Intel Calpella Chipset, 3.3 V, 133 MHz Max Output, 0 to 85 degC, 32-pin QFN; Manufacturer: Silicon Labs; PartNumber: SL28770ELC; Output Format: LVCMOS; HCSL; Output Frequency (MHz): 14.318; 27; 48; 96; 100; 133; Reference Inputs: 1; VDD: 3.3 V; Sub-Family: Clock Generators; DatasheetVersion: Rev. AA; PackageReference: QFN-32; PackageDescription: 32-Pin Quad-Flat No-Leads Package, Body 5 x 5 mm, Pitch 0.5 mm; Supplier 1: Digi-Key; Supplier Part Number 1: SL28770ELC-ND; Supplier 2: Mouser; Supplier Part Number 2: 634-SL28770ELC; Mounting Technology: Surface Mount; ComponentLink1Description: Manufacturer URL; ComponentLink1URL: http://www.silabs.com/; ComponentLink2Description: Datasheet; ComponentLink2URL: http://www.silabs.com/Support%20Documents/TechnicalDocs/SL28770.pdf; ComponentLink3Description: Package Specification; ComponentLink3URL: http://www.silabs.com/Support%20Documents/TechnicalDocs/SL28PCIe10.pdf
footprint SLAB-QFN-32-3300x3300TP_B_N (QFN, 32-Leads, Body 5.1x5.1mm, Pitch 0.5mm, Thermal Pad 3.3x3.3mm, IPC Medium Density)
footprint SLAB-QFN-32-3300x3300TP_B_L (QFN, 32-Leads, Body 5.1x5.1mm, Pitch 0.5mm, Thermal Pad 3.3x3.3mm, IPC High Density)
footprint SLAB-QFN-32-3300x3300TP_B_M (QFN, 32-Leads, Body 5.1x5.1mm, Pitch 0.5mm, Thermal Pad 3.3x3.3mm, IPC Low Density)
part A pins: 3 DOT96 (hiz) "Fixed true 96MHz clock output", 4 DOT96# (hiz) "Fixed complement 96MHz clock output", 6 27M_NSS (hiz) "Non-spread 27MHz video clock output", 7 27M_SS (hiz) "Spread 27MHz video clock output", 8 USB_48 (hiz) "Non-spread 48MHz video clock output", 10 SRC0/SATA (hiz) "100MHz True differential serial reference clock", 11 SRC0#/SATA# (hiz) "100MHz Complement differential serial reference clock", 13 SRC1 (hiz) "100MHz True differential serial reference clock", 14 SRC1# (hiz) "100MHz Complement differential serial reference clock", 16 CPU_STP# (in) "3.3V tolerance input to stop the CPU clock", 19 CPU1# (hiz) "Complement differential CPU clock output", 20 CPU1 (hiz) "True differential CPU clock output", 22 CPU0# (hiz) "Complement differential CPU clock output", 23 CPU0 (hiz) "True differential CPU clock output", 25 CKPWRGD/PD# (in) "3.3V LVTTL input. This pin is a level sensitive strobe used to latch the FS. After CKPWRGD (active HIGH) assertion, this pin becomes a real-time input for asserting power down (active LOW)", 27 XOUT "14.318MHz Crystal output, Float XOUT if using only CLKIN (Clock input)", 28 XIN/CLKIN (in) "14.318MHz Crystal input or 3.3V, 14.318MHz Clock Input", 30 REF/FS (io) "3.3V tolerant input for Graphic clock selection/fixed 14.318MHz clock output. (Internal 100K-ohm pull-down resistor on FS pin) Refer to DC Electrical Specifications table for Vil_FS and Vih_FS specifications", 31 SDATA (io) "SMBus compatible SDATA", 32 SCLK (in) "SMBus compatible SCLOCK"
part B pins: 1 VDD_DOT (power) "3.3V Power supply for outputs and PLL", 2 VSS_DOT (power) "Ground for outputs", 5 VDD_27 (power) "3.3V Power supply for 27MHz PLL", 9 VSS_27 (power) "Ground for 27MHz PLL", 12 VSS_SRC (power) "Ground for PLL", 15 VDD_SRC_IO (power) "Scalable 3.3V to 1.05V power supply for output buffer", 17 VDD_SRC (power) "3.3V Power supply for PLL", 18 VDD_CPU_IO (power) "Scalable 3.3V to 1.05V power supply for output buffer", 21 VSS_CPU (power) "Ground for PLL", 24 VDD_CPU (power) "3.3V Power supply for CPU PLL", 26 VSS_REF (power) "Ground for outputs", 29 VDD_REF (power) "3.3V Power supply for outputs and also maintains SMBUS registers during power-down", 33 EP

## SL28770ELCT
designator U?
EProClock(R) Generator for Intel Calpella Chipset, 3.3 V, 133 MHz Max Output, 0 to 85 degC, 32-pin QFN, Tape and Reel; Manufacturer: Silicon Labs; PartNumber: SL28770ELCT; Output Format: LVCMOS; HCSL; Output Frequency (MHz): 14.318; 27; 48; 96; 100; 133; Phase Jitter (RMS): > 1 ps; Reference Inputs: 1; VDD: 3.3 V; Sub-Family: Clock Generators; DatasheetVersion: Rev. AA; PackageReference: QFN-32; PackageDescription: 32-Pin Quad-Flat No-Leads Package, Body 5 x 5 mm, Pitch 0.5 mm; Supplier 1: Digi-Key; Supplier Part Number 1: SL28770ELCT-ND; Supplier 2: Mouser; Supplier Part Number 2: 634-SL28770ELCT; Packing: Tape and Reel; Mounting Technology: Surface Mount; ComponentLink1Description: Manufacturer URL; ComponentLink1URL: http://www.silabs.com/; ComponentLink2Description: Datasheet; ComponentLink2URL: http://www.silabs.com/Support%20Documents/TechnicalDocs/SL28770.pdf; ComponentLink3Description: Package Specification; ComponentLink3URL: http://www.silabs.com/Support%20Documents/TechnicalDocs/SL28PCIe10.pdf
footprint SLAB-QFN-32-3300x3300TP_B_N (QFN, 32-Leads, Body 5.1x5.1mm, Pitch 0.5mm, Thermal Pad 3.3x3.3mm, IPC Medium Density)
footprint SLAB-QFN-32-3300x3300TP_B_L (QFN, 32-Leads, Body 5.1x5.1mm, Pitch 0.5mm, Thermal Pad 3.3x3.3mm, IPC High Density)
footprint SLAB-QFN-32-3300x3300TP_B_M (QFN, 32-Leads, Body 5.1x5.1mm, Pitch 0.5mm, Thermal Pad 3.3x3.3mm, IPC Low Density)
part A pins: 3 DOT96 (hiz) "Fixed true 96MHz clock output", 4 DOT96# (hiz) "Fixed complement 96MHz clock output", 6 27M_NSS (hiz) "Non-spread 27MHz video clock output", 7 27M_SS (hiz) "Spread 27MHz video clock output", 8 USB_48 (hiz) "Non-spread 48MHz video clock output", 10 SRC0/SATA (hiz) "100MHz True differential serial reference clock", 11 SRC0#/SATA# (hiz) "100MHz Complement differential serial reference clock", 13 SRC1 (hiz) "100MHz True differential serial reference clock", 14 SRC1# (hiz) "100MHz Complement differential serial reference clock", 16 CPU_STP# (in) "3.3V tolerance input to stop the CPU clock", 19 CPU1# (hiz) "Complement differential CPU clock output", 20 CPU1 (hiz) "True differential CPU clock output", 22 CPU0# (hiz) "Complement differential CPU clock output", 23 CPU0 (hiz) "True differential CPU clock output", 25 CKPWRGD/PD# (in) "3.3V LVTTL input. This pin is a level sensitive strobe used to latch the FS. After CKPWRGD (active HIGH) assertion, this pin becomes a real-time input for asserting power down (active LOW)", 27 XOUT "14.318MHz Crystal output, Float XOUT if using only CLKIN (Clock input)", 28 XIN/CLKIN (in) "14.318MHz Crystal input or 3.3V, 14.318MHz Clock Input", 30 REF/FS (io) "3.3V tolerant input for Graphic clock selection/fixed 14.318MHz clock output. (Internal 100K-ohm pull-down resistor on FS pin) Refer to DC Electrical Specifications table for Vil_FS and Vih_FS specifications", 31 SDATA (io) "SMBus compatible SDATA", 32 SCLK (in) "SMBus compatible SCLOCK"
part B pins: 1 VDD_DOT (power) "3.3V Power supply for outputs and PLL", 2 VSS_DOT (power) "Ground for outputs", 5 VDD_27 (power) "3.3V Power supply for 27MHz PLL", 9 VSS_27 (power) "Ground for 27MHz PLL", 12 VSS_SRC (power) "Ground for PLL", 15 VDD_SRC_IO (power) "Scalable 3.3V to 1.05V power supply for output buffer", 17 VDD_SRC (power) "3.3V Power supply for PLL", 18 VDD_CPU_IO (power) "Scalable 3.3V to 1.05V power supply for output buffer", 21 VSS_CPU (power) "Ground for PLL", 24 VDD_CPU (power) "3.3V Power supply for CPU PLL", 26 VSS_REF (power) "Ground for outputs", 29 VDD_REF (power) "3.3V Power supply for outputs and also maintains SMBUS registers during power-down", 33 EP